# EAGLE library part SI705* (library si70xx-10)
I2C Temperature Sensors Source: http://www.silabs.com/Support%20Documents/TechnicalDocs/Si7050-3-4-5-A20.pdf
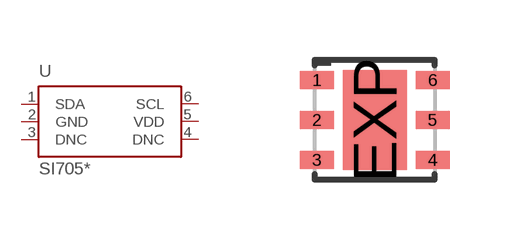
[diagram p9: symbol with the pads of DFN6-3X3; footprint DFN6-3X3]

Designator prefix -

## SI7050-A20-IM (MF: Silicon Labs; MPN: Si7050-A20-IM; OC_FARNELL: unknown; OC_NEWARK: unknown), SI7050-A20-IMR (MF: Silicon Labs; MPN: Si7050-A20-IMR; OC_FARNELL: unknown; OC_NEWARK: unknown), SI7053-A20-IM (MF: Silicon Labs; MPN: Si7053-A20-IM; OC_FARNELL: unknown; OC_NEWARK: unknown), SI7053-A20-IMR (MF: Silicon Labs; MPN: Si7053-A20-IMR; OC_FARNELL: unknown; OC_NEWARK: unknown), SI7054-A20-IM (MF: Silicon Labs; MPN: Si7054-A20-IM; OC_FARNELL: unknown; OC_NEWARK: unknown), SI7054-A20-IMR (MF: Silicon Labs; MPN: Si7054-A20-IMR; OC_FARNELL: unknown; OC_NEWARK: unknown), SI7055-A20-IM (MF: Silicon Labs; MPN: Si7055-A20-IM; OC_FARNELL: unknown; OC_NEWARK: unknown), SI7055-A20-IMR (MF: Silicon Labs; MPN: Si7055-A20-IMR; OC_FARNELL: unknown; OC_NEWARK: unknown)  [DFN6-3X3]
1  SDA
2  GND  pwr
3  DNC  nc
4  DNC  nc
5  VDD  pwr
6  SCL  in

## Footprint DFN6-3X3 (pad centres in mm)
6-Lead Plastic Dual Flat No Lead Package - 3x3 mm Body [DFN] Source: http://www.silabs.com/Support%20Documents/TechnicalDocs/Si7006-A10.pdf
smd 0.85 x 0.45: 1 -1.45,1; 2 -1.45,0; 3 -1.45,-1; 4 1.45,-1; 5 1.45,0; 6 1.45,1
smd 1.6 x 2.5: EXP 0,0